# EAGLE library part 1PEEL-12_C (library con-odu_med)
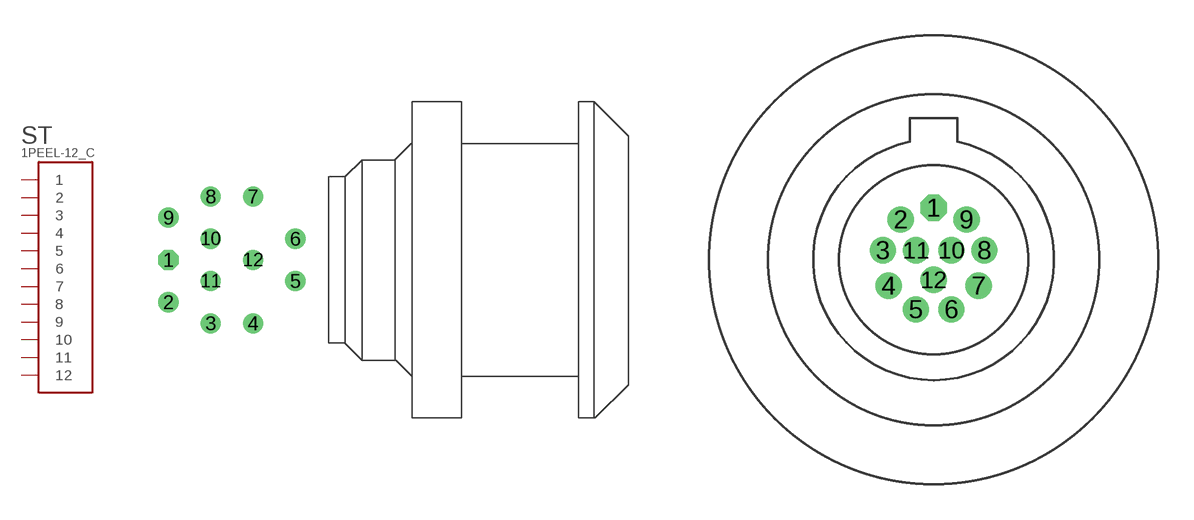
[diagram p18: symbol with the pads of 1PEEK12_S; footprints 1PEEK12_S, 1PEEK12]

Designator prefix ST

## 1PEEL-12_C1PEEK-12_S  [1PEEK12_S]
1  1  pas
2  2  pas
3  3  pas
4  4  pas
5  5  pas
6  6  pas
7  7  pas
8  8  pas
9  9  pas
10  10  pas
11  11  pas
12  12  pas

## 1PEEL-12_C  [1PEEK12]
Pads as for 1PEEK12_S

## Footprint 1PEEK12_S (pad centres in mm)
drill 0.7 octagon: 1 -7.62,0
drill 0.7: 2 -7.62,-2.54; 3 -5.08,-3.81; 4 -2.54,-3.81; 5 0,-1.27; 6 0,1.27; 7 -2.54,3.81; 8 -5.08,3.81; 9 -7.62,2.54; 10 -5.08,1.27; 11 -5.08,-1.27; 12 -2.54,0

## Footprint 1PEEK12 (pad centres in mm)
drill 0.6 pad 1 octagon: 1 0,2.2
drill 0.6 pad 1: 2 -1.4,1.7; 3 -2.15,0.4; 4 -1.9,-1.1; 5 -0.75,-2.1; 6 0.75,-2.1; 7 1.9,-1.1; 8 2.15,0.4; 9 1.4,1.7; 10 0.75,0.4; 11 -0.75,0.4; 12 0,-0.85